# Altium schematic symbol library EL-sense_Buffers&Line_Driver.SchLib: 3 symbols
Pins are listed as number, name and electrical type; pins without a type are passive.

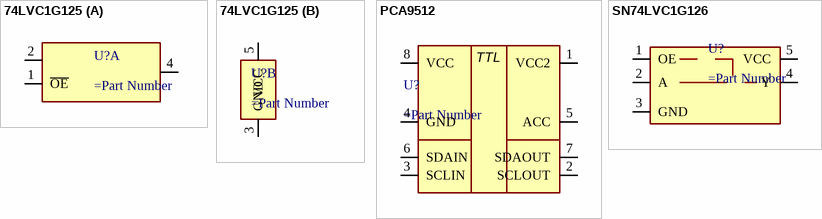
[diagram p0: symbols 74LVC1G125 to SN74LVC1G126]

## 74LVC1G125
designator U?
part A pins: 1 ~{OE}, 2 A, 4 Y
part B pins: 3 GND, 5 VCC

## PCA9512
designator U?
pins: 1 VCC2, 2 SCLOUT, 3 SCLIN, 4 GND, 5 ACC, 6 SDAIN, 7 SDAOUT, 8 VCC
text: TTL

## SN74LVC1G126
designator U?
pins: 1 OE, 2 A, 3 GND, 4 Y, 5 VCC